# EAGLE library part TLE7250GVIO (library personal)
Infineon TLE7250GVIO - High Speed CAN Transceiver The TLE7250GVIO is a transceiver designed for CAN networks in automotive and industrial applications. As an interface between the physical bus layer and the CAN protocol controller, the TLE7250GVIO drives the signals to the bus and protects the microcontroller against interferences generated within the network. Based on the high symmetry of the CANH and CANL signals, the TLE7250GVIO provides a very low level of electromagnetic emission (EME) within a wide frequency range. The TLE7250GVIO is integrated in a RoHS-compliant PG-DSO-8 package and fulfills or exceeds the requirements of ISO11898-2. As a successor to the first generation of HS CAN transceivers, the pin assignment and function of the TLE7250GVIO is fully compatible with its predecessor model, the TLE6250GV33. The TLE7250GVIO is optimized to provide an excellent passive behavior in the power-down state. This feature makes the TLE7250GVIO extremely suitable for mixed supply CAN networks. Based on the Infineon Smart Power Technology SPT, the TLE7250GVIO provides excellent ESD immunity together with a very high electromagnetic immunity (EMI). The Infineon Smart Power Technology SPT allows bipolar and CMOS control circuitry in accordance with DMOS power devices to exist on the same monolithic circuit. The TLE7250GVIO and the Infineon SPT technology are AEC qualified and tailored to withstand the harsh conditions of the Automotive Environment. Two different operating modes, additional fail-safe features like TxD time-out and the optimized output slew rates on the CANH and CANL signals make the TLE7250GVIO the ideal choice for large CAN networks with high data transmission rates.
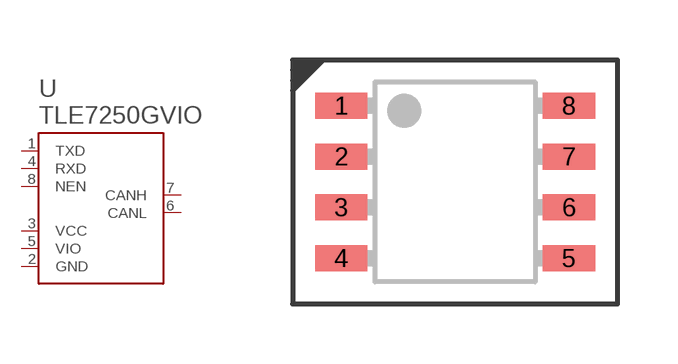
[diagram p16: symbol with the pads of P-PG-DSO-8; footprint P-PG-DSO-8]

Designator prefix U

## TLE7250GVIO  [P-PG-DSO-8]
1  TXD
2  GND
3  VCC
4  RXD
5  VIO
6  CANL
7  CANH
8  NEN

## Footprint P-PG-DSO-8 (pad centres in mm)
smd 1.31 x 0.65: 1 -2.845,1.905; 2 -2.845,0.635; 3 -2.845,-0.635; 4 -2.845,-1.905; 5 2.845,-1.905; 6 2.845,-0.635; 7 2.845,0.635; 8 2.845,1.905